# Altium footprint library DEA202450BT1213C1.PcbLib: 1 footprints
Each footprint in its own frame and in the unit in brackets; x right, y up, seen from the top. Pads: shape width x height; smd on the part's side, far side on the other; paste and mask are expansions set on the pad; w line width, h text height; cw(c..) or ccw(c..) is an arc to the next point about the centre after c.
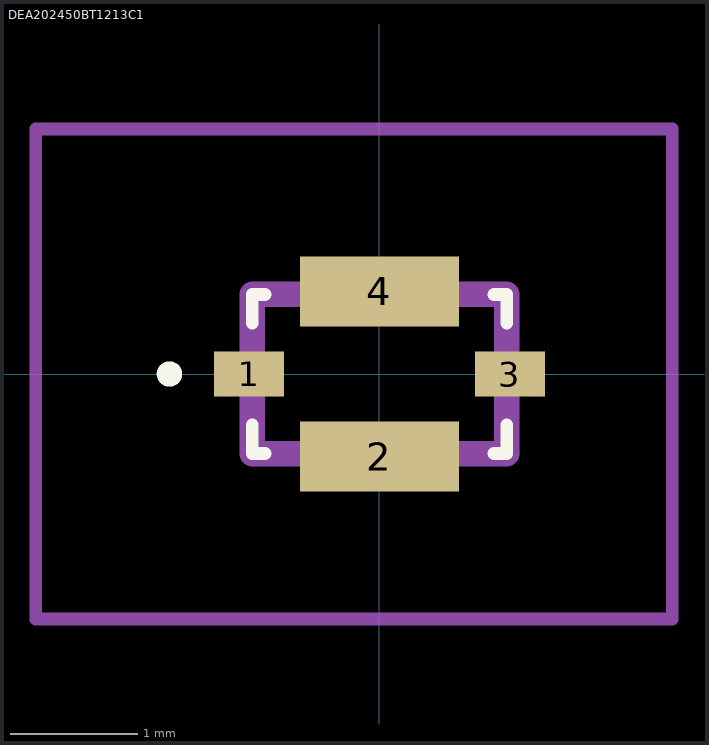
[diagram p0: the footprint, top view; thin cyan lines are the x and y axes]

## DEA202450BT1213C1 [mm]
pads (4):
  rect 0.55x0.35 smd: 1(-1.025,0) 3(1.025,0)
  rect 1.25x0.55 smd: 2(0,-0.65) 4(0,0.65)
Top Overlay:
  lines w0.1: -1,-0.4 -1,-0.625 -0.9,-0.625 ; -1,0.4 -1,0.6 -1,0.625 -0.9,0.625 ; 0.9,-0.625 1,-0.625 1,-0.4 ; 0.9,0.625 1,0.625 1,0.4 ; -1.7,0 cw(c-1.65,0) -1.6,0 ; -1.7,0 -1.7,0 ; -1.7,0 ccw(c-1.65,0) -1.6,0 ; -1.6,0 -1.6,0
Mechanical 15:
  lines w0.2: -1,-0.625 1,-0.625 1,0.625 -1,0.625 -1,-0.625
Mechanical 20:
  lines w0.1: -2.7,-1.925 2.3,-1.925 2.3,1.925 -2.7,1.925 -2.7,-1.925